# EAGLE library part KEYPAD (library lightsuits)
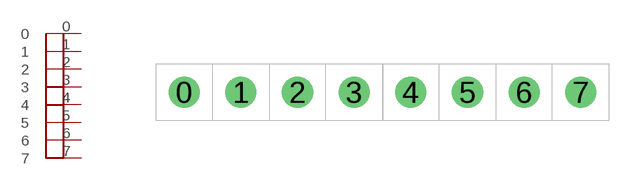
[diagram p5: symbol with the pads of KEYPAD; footprint KEYPAD]

Designator prefix -

## KEYPAD  [KEYPAD]
0  0
1  1
2  2
3  3
4  4
5  5
6  6
7  7

## Footprint KEYPAD (pad centres in mm)
drill 0.89: 0 -8.89,0; 1 -6.35,0; 2 -3.81,0; 3 -1.27,0; 4 1.27,0; 5 3.81,0; 6 6.35,0; 7 8.89,0